# Altium footprint library CSP_library.PcbLib: 22 footprints (part 1 of 2)
Each footprint in its own frame and in the unit in brackets; x right, y up, seen from the top. Pads: shape width x height; smd on the part's side, far side on the other; paste and mask are expansions set on the pad; w line width, h text height; cw(c..) or ccw(c..) is an arc to the next point about the centre after c.
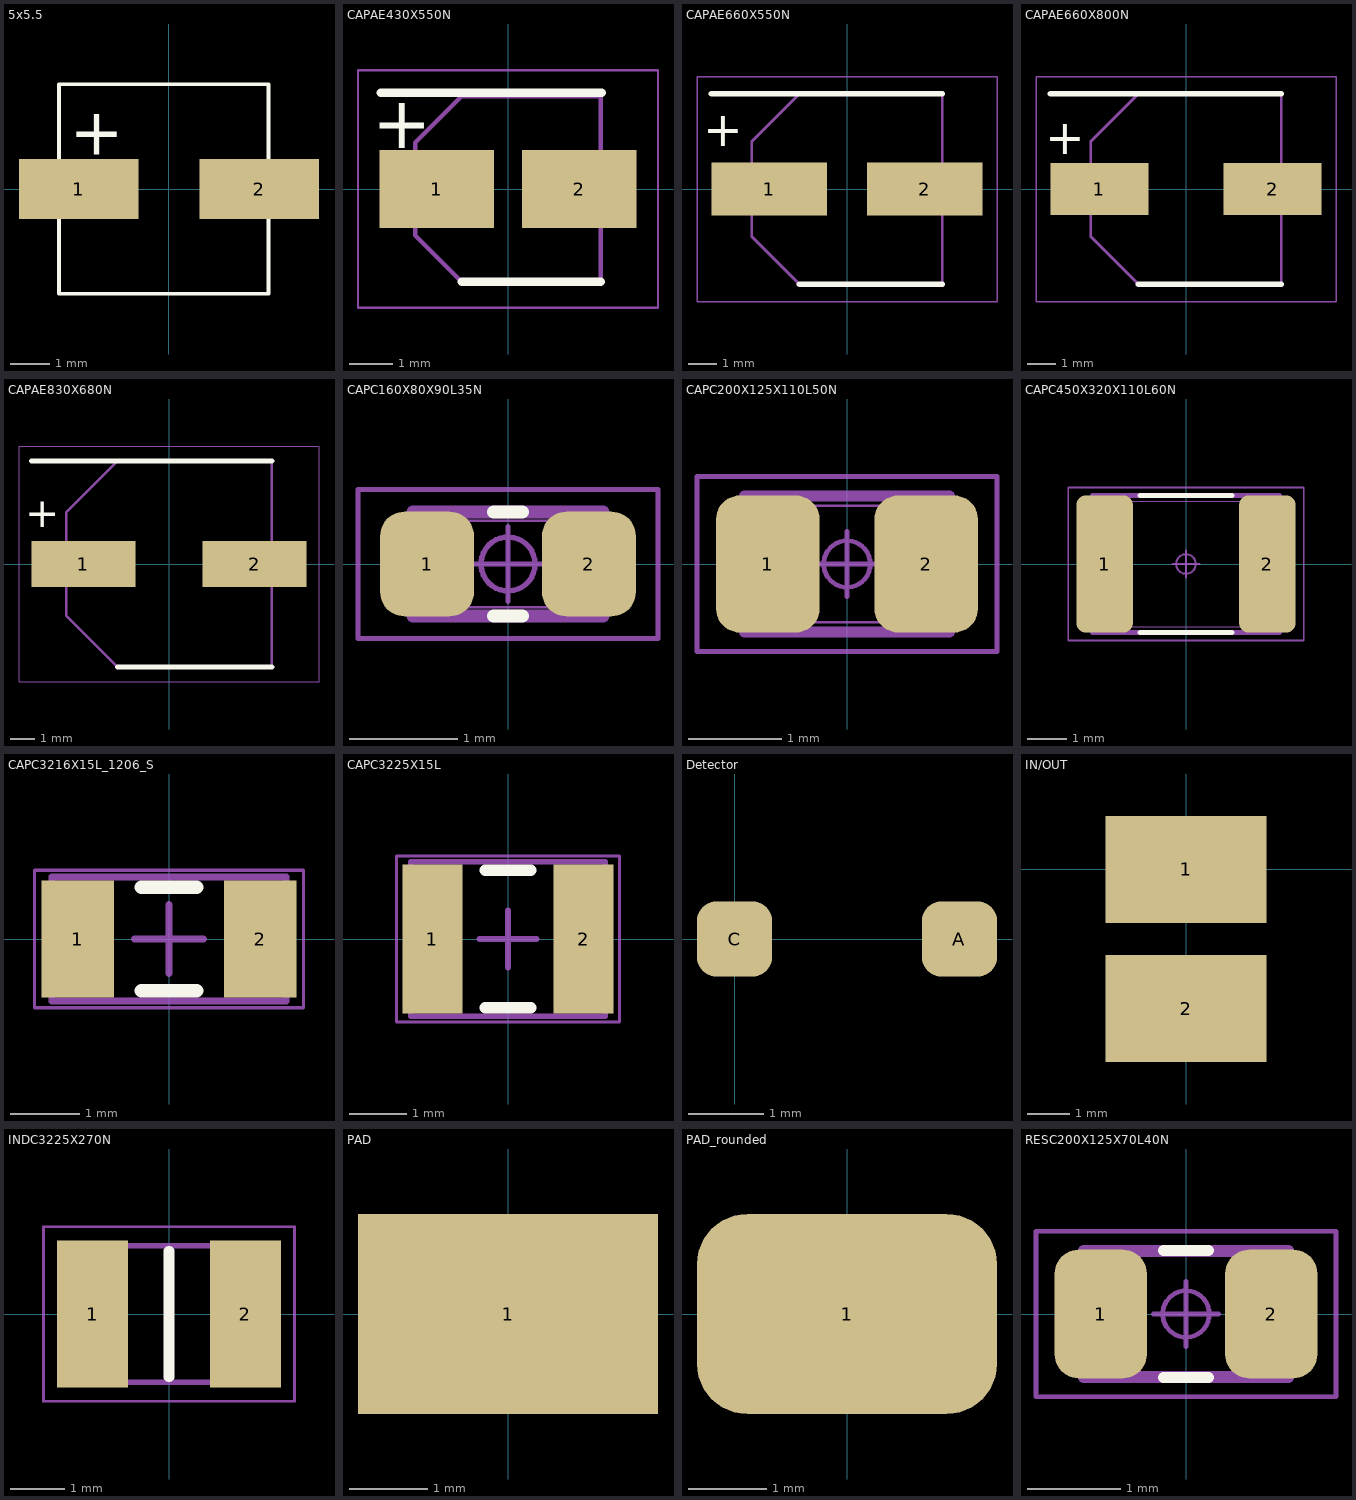
[diagram p0: the footprints below, top view; thin cyan lines are the x and y axes]

## 5x5.5 [mil]
pads (2):
  rect 120x60 smd: 1(-90,0) 2(90.67,0)
Top Overlay:
  lines w3.94: -110,-105 -110,105 100,105 100,-105 -110,-105
  text "+" at -99,34.13 h47.24
3D body "ELCO SMD 5.0x5.5mm 6uF8 50V size C.stp": height 218.5, standoff 0, extent -123.11,-105 113.11,103.53

## CAPAE430X550N [mm]
pads (2):
  rect 2.65x1.8 smd: 1(-1.65,0) 2(1.65,0)
Top Overlay:
  lines w0.2: -2.95,2.226 2.175,2.226 ; -1.075,-2.15 2.15,-2.15
  text "+" at -3.15,0.943 h1.2
Mechanical 13:
  lines w0.1: -2.15,-1.075 -1.075,-2.15 2.15,-2.15 2.15,2.15 -1.075,2.15 -2.15,1.075 -2.15,-1.075
Mechanical 15:
  lines w0.05: -3.475,-2.75 -3.475,2.75 3.475,2.75 3.475,-2.75 -3.475,-2.75
3D body "865250240001.stp": height 5.5, standoff 0, extent -2.25,-2.25 2.25,2.25

## CAPAE660X550N [mm]
pads (2):
  rect 4x1.85 smd: 1(-2.7,0) 2(2.7,0)
Top Overlay:
  lines w0.2: -4.7,3.3 3.3,3.3 ; -1.65,-3.3 3.3,-3.3
  text "+" at -4.978,1.476 h1.2
Mechanical 13:
  lines w0.1: -3.3,-1.65 -1.65,-3.3 3.3,-3.3 3.3,3.3 -1.65,3.3 -3.3,1.65 -3.3,-1.65
Mechanical 15:
  lines w0.05: -5.2,-3.9 -5.2,3.9 5.2,3.9 5.2,-3.9 -5.2,-3.9
3D body "AVE107M06D16T-F.stp": height 5.5, standoff 0, extent -4,-3.4 4,3.4

## CAPAE660X800N [mm]
pads (2):
  rect 3.4x1.8 smd: 1(-3,0) 2(3,0)
Top Overlay:
  lines w0.2: -4.7,3.3 3.3,3.3 ; -1.65,-3.3 3.3,-3.3
  text "+" at -4.877,1.197 h1.2
Mechanical 13:
  lines w0.1: -3.3,-1.65 -3.3,1.65 -1.65,3.3 3.3,3.3 3.3,-3.3 -1.65,-3.3 -3.3,-1.65
Mechanical 15:
  lines w0.05: -5.2,-3.9 5.2,-3.9 5.2,3.9 -5.2,3.9 -5.2,-3.9
3D body "EEE-FK1V101XP.stp": height 8, standoff 0, extent -3.9,-3.4 3.9,3.4

## CAPAE830X680N [mm]
pads (2):
  rect 4.2x1.85 smd: 1(-3.45,0) 2(3.45,0)
Top Overlay:
  lines w0.2: -5.55,4.15 4.15,4.15 ; -2.075,-4.15 4.15,-4.15
  text "+" at -5.791,1.476 h1.2
Mechanical 13:
  lines w0.1: -4.15,-2.075 -4.15,2.075 -2.075,4.15 4.15,4.15 4.15,-4.15 -2.075,-4.15 -4.15,-2.075
Mechanical 15:
  lines w0.05: -6.05,-4.75 6.05,-4.75 6.05,4.75 -6.05,4.75 -6.05,-4.75
3D body "EEE-FP1C221AV.stp": height 6.8, standoff 0, extent -4.75,-4.25 4.75,4.25

## CAPC160X80X90L35N [mm] "Capacitor, Chip; 1.60 mm L X 0.80 mm W X 0.90 mm H body"
height 0.9
pads (2):
  rrect51% 0.87x0.97 smd: 1(-0.75,0) 2(0.75,0)
Top Overlay:
  lines w0.12: -0.135,-0.48 0.135,-0.48 ; -0.135,0.48 0.135,0.48
Mechanical 11:
  lines w0.12: -0.88,-0.48 0.88,-0.48 0.88,0.48 -0.88,0.48 -0.88,-0.48
Mechanical 12:
  lines w0.025: -0.8,-0.4 0.8,-0.4 ; -0.8,-0.4 -0.8,0.4 ; -0.8,-0.4 -0.8,0.4 ; -0.8,-0.4 -0.45,-0.4 -0.45,0.4 -0.8,0.4 ; -0.8,0.4 0.8,0.4 ; 0.8,-0.4 0.8,0.4 ; 0.8,-0.4 0.45,-0.4 0.45,0.4 0.8,0.4 ; 0.8,-0.4 0.8,0.4
Mechanical 15:
  circle w0.05: c0,0 r0.25
  lines w0.05: -0.345,0 0.345,0 ; 0,-0.345 0,0.345 ; -1.39,-0.69 1.39,-0.69 1.39,0.69 -1.39,0.69 -1.39,-0.69
3D body: height 0.25, standoff 0, extent 0,0 0.254,0.254
3D body "CAPC160X80X90L35.STEP": height 0.9, standoff 0, extent -0.8,-0.4 0.8,0.4

## CAPC200X125X110L50N [mm] "Capacitor, Chip; 2.00 mm L X 1.25 mm W X 1.10 mm H body"
height 1.1
pads (2):
  rrect45% 1.11x1.47 smd: 1(-0.85,0) 2(0.85,0)
Mechanical 11:
  lines w0.12: -1.1,-0.73 -1.1,0.73 1.1,0.73 1.1,-0.73 -1.1,-0.73
Mechanical 12:
  lines w0.025: -1,-0.625 -0.5,-0.625 -0.5,0.625 -1,0.625 ; -1,-0.625 -1,0.625 ; -1,-0.625 -1,0.625 ; -1,-0.625 1,-0.625 ; -1,0.625 1,0.625 ; 1,-0.625 1,0.625 ; 1,-0.625 0.5,-0.625 0.5,0.625 1,0.625 ; 1,-0.625 1,0.625
Mechanical 15:
  circle w0.05: c0,0 r0.25
  lines w0.05: -0.35,0 0.35,0 ; 0,-0.35 0,0.35 ; -1.61,-0.94 -1.61,0.94 1.61,0.94 1.61,-0.94 -1.61,-0.94
3D body: height 0.25, standoff 0, extent 0,0 0.254,0.254
3D body "CAPC200X125X110L50.STEP": height 1.1, standoff 0, extent -1,-0.625 1,0.625
3D body "CAPC200X125X110L50.STEP": height 1.1, standoff 0, extent -1,-0.625 1,0.625

## CAPC450X320X110L60N [mm] "Capacitor, Chip; 4.50 mm L X 3.20 mm W X 1.10 mm H body"
height 1.1
pads (2):
  rrect34% 1.45x3.51 smd: 1(-2.08,0) 2(2.08,0)
Top Overlay:
  lines w0.12: -1.175,-1.75 1.175,-1.75 ; -1.175,1.75 1.175,1.75
Mechanical 11:
  lines w0.12: -2.4,-1.75 -2.4,1.75 2.4,1.75 2.4,-1.75 -2.4,-1.75
Mechanical 12:
  lines w0.025: -2.25,-1.6 -1.65,-1.6 -1.65,1.6 -2.25,1.6 ; -2.25,-1.6 -2.25,1.6 ; -2.25,-1.6 -2.25,1.6 ; -2.25,-1.6 2.25,-1.6 ; -2.25,1.6 2.25,1.6 ; 2.25,-1.6 2.25,1.6 ; 2.25,-1.6 1.65,-1.6 1.65,1.6 2.25,1.6 ; 2.25,-1.6 2.25,1.6
Mechanical 15:
  circle w0.05: c0,0 r0.25
  lines w0.05: -0.35,0 0.35,0 ; 0,-0.35 0,0.35 ; -3.01,-1.96 -3.01,1.96 3.01,1.96 3.01,-1.96 -3.01,-1.96
3D body: height 0.25, standoff 0, extent 0,0 0.254,0.254
3D body "CAPC450X320X110L60.STEP": height 1.1, standoff 0, extent -2.25,-1.6 2.25,1.6

## CAPC3216X15L_1206_S [mm] "Chip Capacitor, 2-Leads, Body 3,20x1,60mm, IPC High Density"
height 1.5
pads (2):
  rect 1.05x1.7 smd: 1(-1.325,0) 2(1.325,0)
Top Overlay:
  lines w0.2: -0.4,-0.75 0.4,-0.75 ; -0.4,0.75 0.4,0.75
Mechanical 13:
  lines w0.1: -1.7,-0.9 1.7,-0.9 1.7,0.9 -1.7,0.9 -1.7,-0.9
Mechanical 15:
  lines w0.05: -1.95,-1 1.95,-1 1.95,1 -1.95,1 -1.95,-1
  lines w0.1: -0.5,0 0.5,0 ; 0,-0.5 0,0.5
3D body: height 1.5, standoff 0, extent 1.2,-0.9 1.7,0.9
3D body: height 1.5, standoff 0, extent -1.7,-0.9 -1.2,0.9
3D body: height 1.5, standoff 0, extent -1.2,-0.9 1.2,0.9

## CAPC3225X15L [mm] "Chip Capacitor, 1210, 2-Leads, Body 3,20x2,50mm, IPC High Density"
height 1.5
pads (2):
  rect 1.05x2.6 smd: 1(-1.325,0) 2(1.325,0)
Top Overlay:
  lines w0.2: -0.4,-1.2 0.4,-1.2 ; -0.4,1.2 0.4,1.2
Mechanical 13:
  lines w0.1: -1.7,-1.35 -1.7,1.35 1.7,1.35 1.7,-1.35 -1.7,-1.35
Mechanical 15:
  lines w0.05: -1.95,-1.45 -1.95,1.45 1.95,1.45 1.95,-1.45 -1.95,-1.45
  lines w0.1: -0.5,0 0.5,0 ; 0,-0.5 0,0.5
3D body: height 1.5, standoff 0, extent -1.2,-1.35 1.2,1.35
3D body: height 1.5, standoff 0, extent -1.7,-1.35 -1.2,1.35
3D body: height 1.5, standoff 0, extent 1.2,-1.35 1.7,1.35

## Detector [mm]
pads (2):
  rrect50% 1x1 smd: A(3,0) C(0,0)
3D body: height 1.1, standoff 0, extent -1.5,-1.5 1.5,1.5

## IN/OUT [mil]
pads (2):
  rect 150x100 smd: 1(0,0) 2(0,-130)

## INDC3225X270N [mm]
pads (2):
  rect 1.3x2.7 smd: 1(-1.4,0) 2(1.4,0)
Top Overlay:
  lines w0.2: 0,-1.15 0,1.15
Mechanical 13:
  lines w0.1: -1.6,-1.25 1.6,-1.25 1.6,1.25 -1.6,1.25 -1.6,-1.25
Mechanical 15:
  lines w0.05: -2.3,-1.6 2.3,-1.6 2.3,1.6 -2.3,1.6 -2.3,-1.6
3D body "CBC3225T100MRV.stp": height 2.7, standoff 0, extent -1.6,-1.25 1.6,1.25

## PAD [mm]
pads (1):
  rect 3.81x2.54 smd: 1(0,0)

## PAD_rounded [mm]
pads (1):
  rrect50% 3.81x2.54 smd: 1(0,0)

## RESC200X125X70L40N [mm] "Resistor, Chip; 2.00 mm L X 1.25 mm W X 0.70 mm H body"
height 0.7
pads (2):
  rrect51% 0.99x1.38 smd: 1(-0.915,0) 2(0.915,0)
Top Overlay:
  lines w0.12: -0.24,-0.68 0.24,-0.68 ; -0.24,0.68 0.24,0.68
Mechanical 11:
  lines w0.12: -1.1,-0.68 -1.1,0.68 1.1,0.68 1.1,-0.68 -1.1,-0.68
Mechanical 12:
  lines w0.025: -1,-0.625 -0.6,-0.625 -0.6,0.625 -1,0.625 ; -1,-0.625 -1,0.625 ; -1,-0.625 -1,0.625 ; -1,-0.625 1,-0.625 ; -1,0.625 1,0.625 ; 1,-0.625 1,0.625 ; 1,-0.625 0.6,-0.625 0.6,0.625 1,0.625 ; 1,-0.625 1,0.625
Mechanical 15:
  circle w0.05: c0,0 r0.25
  lines w0.05: -0.35,0 0.35,0 ; 0,-0.35 0,0.35 ; -1.61,-0.89 -1.61,0.89 1.61,0.89 1.61,-0.89 -1.61,-0.89
3D body: height 0.25, standoff 0, extent 0,0 0.254,0.254
3D body "RESC200X125X70L40.STEP": height 0.7, standoff 0, extent -1,-0.625 1,0.625